# Altium footprint library hddr_8x1_0.PcbLib: 1 footprints
Each footprint in its own frame and in the unit in brackets; x right, y up, seen from the top. Pads: shape width x height; smd on the part's side, far side on the other; paste and mask are expansions set on the pad; w line width, h text height; cw(c..) or ccw(c..) is an arc to the next point about the centre after c.
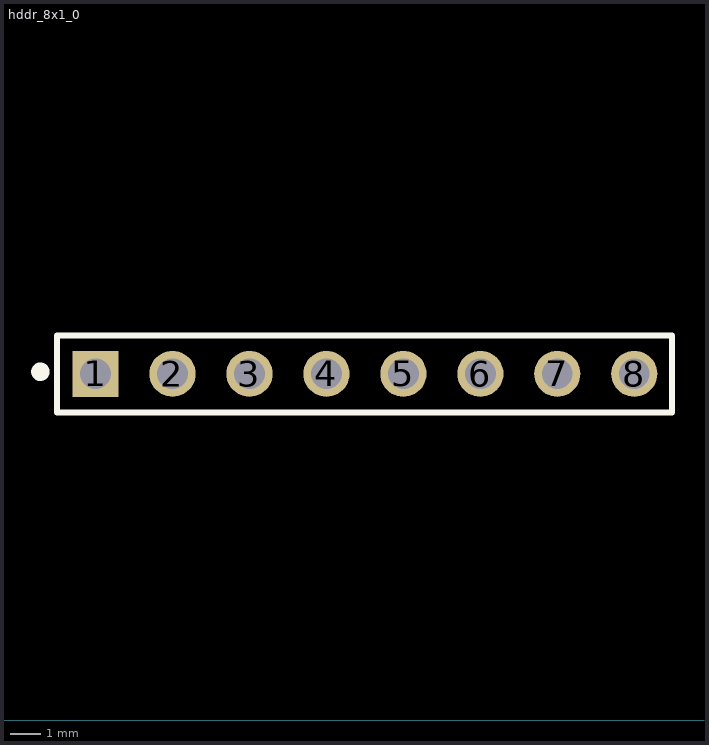
[diagram p0: the footprint, top view; thin cyan lines are the x and y axes]

## hddr_8x1_0 [mil] "0.1\" Header 8x1"
pads (8):
  rect 60x60 hole 40: 1(800,450)
  round 60 hole 40: 2(900,450) 3(1000,450) 4(1100,450) 5(1200,450) 6(1300,450) 7(1400,450) 8(1500,450)
Top Overlay:
  circle w12.2: c728.35,452.76 r5.91
  lines w7.87: 750,399.61 1549.21,399.61 1549.21,500 750,500 750,399.61
3D body "hddr_male_8x1.SLDPRT": height 336.22, standoff -118.11, extent 750,400 1550,500